# Altium footprint library connectors.PcbLib: 32 footprints (part 2 of 2)
Each footprint in its own frame and in the unit in brackets; x right, y up, seen from the top. Pads: shape width x height; smd on the part's side, far side on the other; paste and mask are expansions set on the pad; w line width, h text height; cw(c..) or ccw(c..) is an arc to the next point about the centre after c.
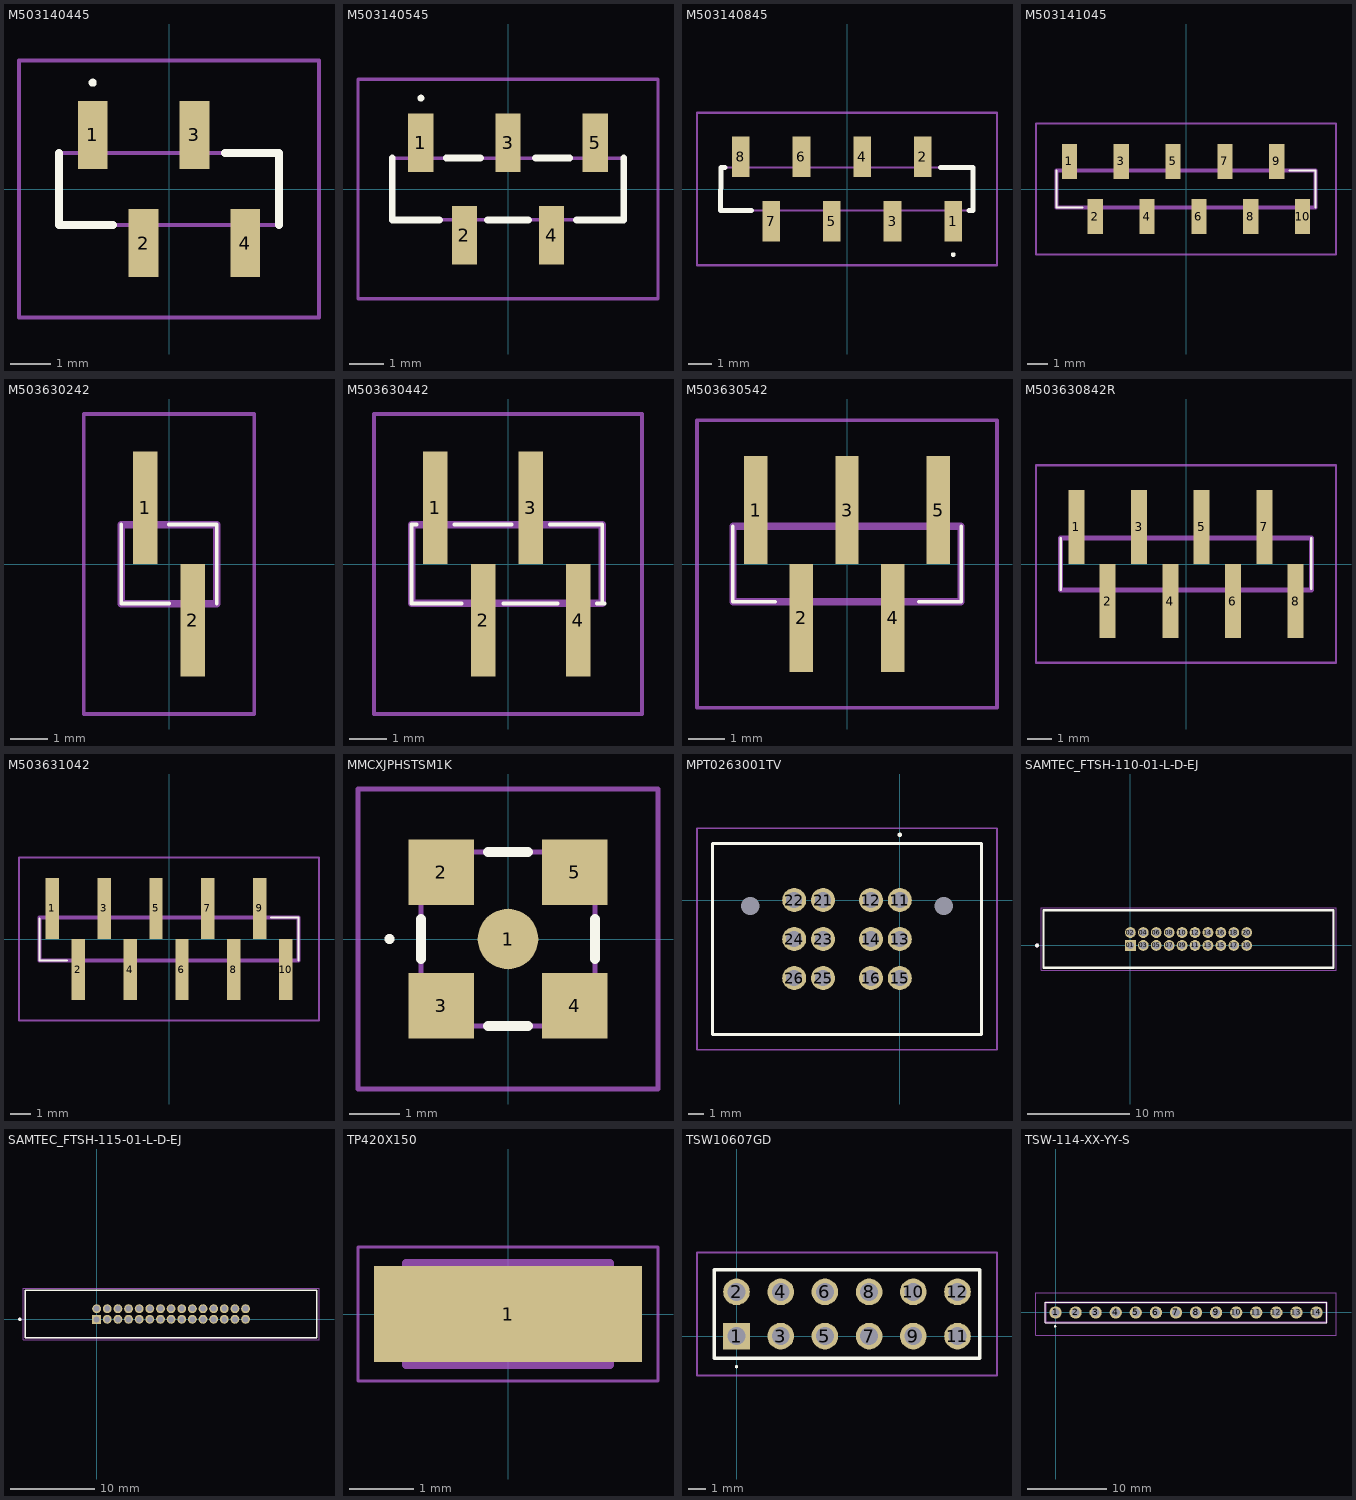
[diagram p1: the footprints below, top view; thin cyan lines are the x and y axes]

## M503140445 [mm]
pads (4):
  rect 0.74x1.7 smd: 1(-1.905,1.35) 2(-0.635,-1.35) 3(0.635,1.35) 4(1.905,-1.35)
Top Overlay:
  lines w0.1: -1.905,2.6 ccw(c-1.905,2.65) -1.905,2.7 ccw(c-1.905,2.65) -1.905,2.6
  lines w0.2: -2.74,0.9 -2.74,-0.9 -1.4,-0.9 ; 1.4,0.9 2.74,0.9 2.74,-0.9
Mechanical 13:
  lines w0.1: -2.74,-0.9 2.74,-0.9 2.74,0.9 -2.74,0.9 -2.74,-0.9
Mechanical 15:
  lines w0.1: -3.74,-3.2 3.74,-3.2 3.74,3.2 -3.74,3.2 -3.74,-3.2
3D body "M50-3140445.stp": height 3.6, standoff 0, extent -2.74,-1.6 2.74,1.6

## M503140545 [mm]
pads (5):
  rect 0.74x1.7 smd: 1(-2.54,1.35) 2(-1.27,-1.35) 3(0,1.35) 4(1.27,-1.35) 5(2.54,1.35)
Top Overlay:
  lines w0.1: -2.54,2.6 cw(c-2.54,2.65) -2.54,2.7 cw(c-2.54,2.65) -2.54,2.6
  lines w0.2: -3.375,0.9 -3.375,-0.9 -2,-0.9 ; -1.8,0.9 -0.8,0.9 ; -0.6,-0.9 0.6,-0.9 ; 0.8,0.9 1.8,0.9 ; 2,-0.9 3.375,-0.9 3.375,0.9
Mechanical 13:
  lines w0.1: -3.375,-0.9 -3.375,0.9 3.375,0.9 3.375,-0.9 -3.375,-0.9
Mechanical 15:
  lines w0.1: -4.375,-3.2 -4.375,3.2 4.375,3.2 4.375,-3.2 -4.375,-3.2
3D body "M50-3140545.stp": height 3.6, standoff 0, extent -3.375,-1.6 3.375,1.6

## M503140845 [mm]
pads (8):
  rect 0.74x1.7 smd: 1(4.445,-1.35) 2(3.175,1.35) 3(1.905,-1.35) 4(0.635,1.35) 5(-0.635,-1.35) 6(-1.905,1.35) 7(-3.175,-1.35) 8(-4.445,1.35)
Top Overlay:
  lines w0.1: 4.45,-2.8 cw(c4.45,-2.75) 4.45,-2.7 cw(c4.45,-2.75) 4.45,-2.8
  lines w0.2: -5.1,0.9 -5.28,0.9 -5.3,-0.9 -4,-0.9 ; 3.9,0.9 5.28,0.9 5.28,-0.9 5.1,-0.9
Mechanical 13:
  lines w0.1: -5.28,-0.9 -5.28,0.9 5.28,0.9 5.28,-0.9 -5.28,-0.9
Mechanical 15:
  lines w0.1: -6.28,-3.2 -6.28,3.2 6.28,3.2 6.28,-3.2 -6.28,-3.2
3D body "M50-3140845.stp": height 3.95, standoff 0, extent -5.28,-2.126 5.28,2.126

## M503141045 [mm]
pads (10):
  rect 0.74x1.7 smd: 1(-5.715,1.35) 2(-4.445,-1.35) 3(-3.175,1.35) 4(-1.905,-1.35) 5(-0.635,1.35) 6(0.635,-1.35) 7(1.905,1.35) 8(3.175,-1.35) 9(4.445,1.35) 10(5.715,-1.35)
Top Overlay:
  lines w0.1: -6.35,0.9 -6.35,-0.9 -5.08,-0.9 ; 5.08,0.9 6.35,0.9 6.35,-0.9
Mechanical 13:
  lines w0.2: -6.35,-0.9 6.35,-0.9 6.35,0.9 -6.35,0.9 -6.35,-0.9
Mechanical 15:
  lines w0.1: -7.35,-3.2 7.35,-3.2 7.35,3.2 -7.35,3.2 -7.35,-3.2
3D body "M50-3141045.stp": height 3.6, standoff 0, extent -6.55,-1.6 6.55,1.6

## M503630242 [mm]
pads (2):
  rect 0.65x3 smd: 1(-0.635,1.5) 2(0.635,-1.5)
Top Overlay:
  lines w0.1: -1.27,1.05 -1.27,-1.055 0,-1.055 ; 0,1.05 1.27,1.05 1.27,-1.055
Mechanical 13:
  lines w0.2: -1.27,-1.055 -1.27,1.05 1.27,1.05 1.27,-1.055 -1.27,-1.055
Mechanical 15:
  lines w0.1: -2.27,-4 -2.27,4 2.27,4 2.27,-4 -2.27,-4
3D body "M50-3630242.stp": height 4.5, standoff 0, extent -1.27,-2.5 1.27,2.5

## M503630442 [mm]
pads (4):
  rect 0.65x3 smd: 1(-1.935,1.5) 2(-0.665,-1.5) 3(0.605,1.5) 4(1.875,-1.5)
Top Overlay:
  lines w0.1: -2.43,1.05 -2.57,1.05 -2.57,1 -2.57,-1.05 -1.53,-1.05 -1.23,-1.05 ; -1.43,1.05 0.095,1.05 ; -0.13,-1.05 1.32,-1.05 ; 1.12,1.05 2.51,1.05 2.51,-1.05 ; 2.37,-1.05 2.57,-1.05
Mechanical 13:
  lines w0.2: -2.57,-1.05 -2.57,1.05 2.51,1.05 2.51,-1.05 -2.57,-1.05
Mechanical 15:
  lines w0.1: -3.57,-4 -3.57,4 3.57,4 3.57,-4 -3.57,-4
3D body "M50-3630442.stp": height 4.1, standoff 0, extent -2.57,-2.935 2.51,2.935

## M503630542 [mm]
pads (5):
  rect 0.65x3 smd: 1(-2.54,1.5) 2(-1.27,-1.5) 3(0,1.5) 4(1.27,-1.5) 5(2.54,1.5)
Top Overlay:
  lines w0.1: -3.175,1.05 -3.175,-1.05 -2,-1.05 ; 2,-1.05 3.175,-1.05 3.175,1.05
Mechanical 13:
  lines w0.2: -3.175,-1.05 3.175,-1.05 3.175,1.05 -3.175,1.05 -3.175,-1.05
Mechanical 15:
  lines w0.1: -4.175,-4 4.175,-4 4.175,4 -4.175,4 -4.175,-4
3D body "M50-3630542.stp": height 4.5, standoff 0, extent -3.175,-2.5 3.175,2.5

## M503630842R [mm]
pads (8):
  rect 0.65x3 smd: 1(-4.445,1.5) 2(-3.175,-1.5) 3(-1.905,1.5) 4(-0.635,-1.5) 5(0.635,1.5) 6(1.905,-1.5) 7(3.175,1.5) 8(4.445,-1.5)
Top Overlay:
  lines w0.1: -5.08,-1.05 -5.08,1.05 ; 5.08,-1 5.08,1.05
Mechanical 13:
  lines w0.2: -5.08,-1.05 -5.08,1.05 5.08,1.05 5.08,-1.05 -5.08,-1.05
Mechanical 15:
  lines w0.1: -6.08,-4 -6.08,4 6.08,4 6.08,-4 -6.08,-4
3D body "M50-3630842R.stp": height 4.5, standoff 0, extent -5.075,-2.5 5.085,2.5

## M503631042 [mm]
pads (10):
  rect 0.65x3 smd: 1(-5.715,1.5) 2(-4.445,-1.5) 3(-3.175,1.5) 4(-1.905,-1.5) 5(-0.635,1.5) 6(0.635,-1.5) 7(1.905,1.5) 8(3.175,-1.5) 9(4.445,1.5) 10(5.715,-1.5)
Top Overlay:
  lines w0.1: -6.35,1 -6.35,-1.05 -5,-1.05 ; 5,1.05 6.35,1.05 6.35,-1.05
Mechanical 13:
  lines w0.2: -6.35,-1.05 -6.35,1.05 6.35,1.05 6.35,-1.05 -6.35,-1.05
Mechanical 15:
  lines w0.1: -7.35,-4 -7.35,4 7.35,4 7.35,-4 -7.35,-4
3D body "M50-3631042.stp": height 4.8, standoff 0, extent -6.35,-2.935 6.35,2.935

## MMCXJPHSTSM1K [mm]
pads (5):
  round 1.2 smd: 1(0,0)
  rect 1.3x1.3 smd: 2(-1.325,1.325) 3(-1.325,-1.325) 4(1.325,-1.325) 5(1.325,1.325)
Top Overlay:
  lines w0.1: -2.4,0 cw(c-2.35,0) -2.3,0 cw(c-2.35,0) -2.4,0
  lines w0.2: -1.725,-0.4 -1.725,0.4 ; -0.4,-1.725 0.4,-1.725 ; -0.4,1.725 0.4,1.725 ; 1.725,-0.4 1.725,0.4
Mechanical 13:
  lines w0.1: -1.725,-1.725 -1.725,1.725 1.725,1.725 1.725,-1.725 -1.725,-1.725
Mechanical 15:
  lines w0.1: -2.975,-2.975 -2.975,2.975 2.975,2.975 2.975,-2.975 -2.975,-2.975
3D body "MMCX-J-P-H-ST-SM1-K.stp": height 4.94, standoff -0.06, extent -1.735,-1.75 1.715,1.75

## MPT0263001TV [mm]
pads (14):
  round 1.56 hole 1.04: 11(0,0) 12(-1.88,0) 13(0,-2.54) 14(-1.88,-2.54) 15(0,-5.08) 16(-1.88,-5.08) 21(-5,0) 22(-6.88,0) 23(-5,-2.54) 24(-6.88,-2.54) 25(-5,-5.08) 26(-6.88,-5.08)
  round 0.595 hole 1.19 unplated: MH1(2.87,-0.39) MH2(-9.75,-0.39)
Top Overlay:
  lines w0.2: 0,4.2 cw(c0,4.25) 0,4.3 ; 0,4.2 ccw(c0,4.25) 0,4.3 ; 0,4.2 0,4.3 ; -12.215,-8.76 5.335,-8.76 5.335,3.69 -12.215,3.69 -12.215,-8.76
Mechanical 13:
  lines w0.1: -12.215,-8.76 5.335,-8.76 5.335,3.69 -12.215,3.69 -12.215,-8.76
Mechanical 15:
  lines w0.1: -13.215,-9.76 6.335,-9.76 6.335,4.69 -13.215,4.69 -13.215,-9.76
3D body "MPT-02-6.30-01-T-V.stp": height 11.61, standoff -5, extent -12.215,-8.76 5.335,3.69

## SAMTEC_FTSH-110-01-L-D-EJ [mm]
pads (20):
  rect 1.06x1.06 hole 0.71: 01(0,0)
  round 1.06 hole 0.71: 02(0,1.27) 03(1.27,0) 04(1.27,1.27) 05(2.54,0) 06(2.54,1.27) 07(3.81,0) 08(3.81,1.27) 09(5.08,0) 10(5.08,1.27) 11(6.35,0) 12(6.35,1.27) 13(7.62,0) 14(7.62,1.27) 15(8.89,0) 16(8.89,1.27) 17(10.16,0) 18(10.16,1.27) 19(11.43,0) 20(11.43,1.27)
Top Overlay:
  circle w0.2: c-9.17,0 r0.1
  lines w0.2: -8.52,-2.19 19.95,-2.19 19.95,3.46 -8.52,3.46 -8.52,-2.19
Mechanical 13:
  circle w0.2: c-9.17,0 r0.1
  lines w0.1: -8.52,-2.19 -8.52,3.46 ; -8.52,-2.19 19.95,-2.19 ; -8.52,-2.19 -8.52,3.46 ; -8.52,3.46 19.95,3.46 ; -8.52,3.46 19.95,3.46 ; 19.95,-2.19 19.95,3.46 ; 19.95,-2.19 19.95,3.46
Mechanical 15:
  lines w0.05: -8.77,-2.44 20.2,-2.44 20.2,3.71 -8.77,3.71 -8.77,-2.44
3D body "FTSH-110-01-L-D-EJ.stp": height 10.76, standoff -2.79, extent -8.534,-2.19 19.939,3.46

## SAMTEC_FTSH-115-01-L-D-EJ [mm]
pads (30):
  rect 1.06x1.06 / inner round 1.06 / far side rect 1.06x1.06 hole 0.71: 01(0,0)
  round 1.06 hole 0.71: 02(0,1.27) 03(1.27,0) 04(1.27,1.27) 05(2.54,0) 06(2.54,1.27) 07(3.81,0) 08(3.81,1.27) 09(5.08,0) 10(5.08,1.27) 11(6.35,0) 12(6.35,1.27) 13(7.62,0) 14(7.62,1.27) 15(8.89,0) 16(8.89,1.27) 17(10.16,0) 18(10.16,1.27) 19(11.43,0) 20(11.43,1.27) 21(12.7,0) 22(12.7,1.27) 23(13.97,0) 24(13.97,1.27) 25(15.24,0) 26(15.24,1.27) 27(16.51,0) 28(16.51,1.27) 29(17.78,0) 30(17.78,1.27)
Top Overlay:
  circle w0.2: c-9.17,0 r0.1
  lines w0.2: -8.52,-2.19 26.3,-2.19 26.3,3.46 -8.52,3.46 -8.52,-2.19
Mechanical 13:
  circle w0.2: c-9.17,0 r0.1
  lines w0.1: -8.52,-2.19 -8.52,3.46 ; -8.52,-2.19 26.3,-2.19 ; -8.52,-2.19 -8.52,3.46 ; -8.52,3.46 26.3,3.46 ; -8.52,3.46 26.3,3.46 ; 26.3,-2.19 26.3,3.46 ; 26.3,-2.19 26.3,3.46
Mechanical 15:
  lines w0.05: -8.77,-2.44 26.55,-2.44 26.55,3.71 -8.77,3.71 -8.77,-2.44
3D body "FTSH-115-01-L-D-EJ.stp": height 10.76, standoff -2.79, extent -8.534,-2.094 26.289,3.556

## TP420X150 [mm]
height 2
pads (1):
  rect 4.2x1.5 smd: 1(0,0)
Mechanical 13:
  lines w0.127: -1.6,-0.8 1.6,-0.8 1.6,0.8 -1.6,0.8 -1.6,-0.8
Mechanical 15:
  lines w0.05: -2.35,-1.05 2.35,-1.05 2.35,1.05 -2.35,1.05 -2.35,-1.05
3D body "step_temp.STEP": height 2.01, standoff 0, extent -1.6,-0.8 1.6,0.8

## TSW10607GD [mm]
pads (12):
  rect 1.53x1.53 hole 1.02: 1(0,0)
  round 1.53 hole 1.02: 2(0,2.54) 3(2.54,0) 4(2.54,2.54) 5(5.08,0) 6(5.08,2.54) 7(7.62,0) 8(7.62,2.54) 9(10.16,0) 10(10.16,2.54) 11(12.7,0) 12(12.7,2.54)
Top Overlay:
  lines w0.1: 0,-1.8 ccw(c0,-1.75) 0,-1.7 ccw(c0,-1.75) 0,-1.8
  lines w0.2: -1.27,-1.27 -1.27,3.81 13.97,3.81 13.97,-1.27 -1.27,-1.27
Mechanical 13:
  lines w0.1: -1.27,-1.27 -1.27,3.81 13.97,3.81 13.97,-1.27 -1.27,-1.27
Mechanical 15:
  lines w0.1: -2.27,-2.27 -2.27,4.81 14.97,4.81 14.97,-2.27 -2.27,-2.27
3D body "TSW-106-07-G-D.stp": height 5.09, standoff -5.83, extent -1.27,-1.27 13.97,3.81

## TSW-114-XX-YY-S [mm]
pads (14):
  round 1.55 hole 1.02: 1(0,0) 2(2.54,0) 3(5.08,0) 4(7.62,0) 5(10.16,0) 6(12.7,0) 7(15.24,0) 8(17.78,0) 9(20.32,0) 10(22.86,0) 11(25.4,0) 12(27.94,0) 13(30.48,0) 14(33.02,0)
Top Overlay:
  circle w0.2: c-0.05,-1.75 r0.05
  lines w0.1: -1.27,-1.27 34.29,-1.27 34.29,1.27 -1.27,1.27 -1.27,-1.27
Mechanical 13:
  lines w0.2: -1.27,-1.27 34.29,-1.27 34.29,1.27 -1.27,1.27 -1.27,-1.27
Mechanical 15:
  lines w0.05: -2.47,-2.85 35.49,-2.85 35.49,2.47 -2.47,2.47 -2.47,-2.85
3D body "TSW-114-08-L-S.stp": height 8.38, standoff -12.7, extent -1.02,-1.27 34.04,1.27